# Altium footprint library SD_Micro_Card_Conn_Wurth_693071010811.PcbLib: 1 footprints
Each footprint in its own frame and in the unit in brackets; x right, y up, seen from the top. Pads: shape width x height; smd on the part's side, far side on the other; paste and mask are expansions set on the pad; w line width, h text height; cw(c..) or ccw(c..) is an arc to the next point about the centre after c.
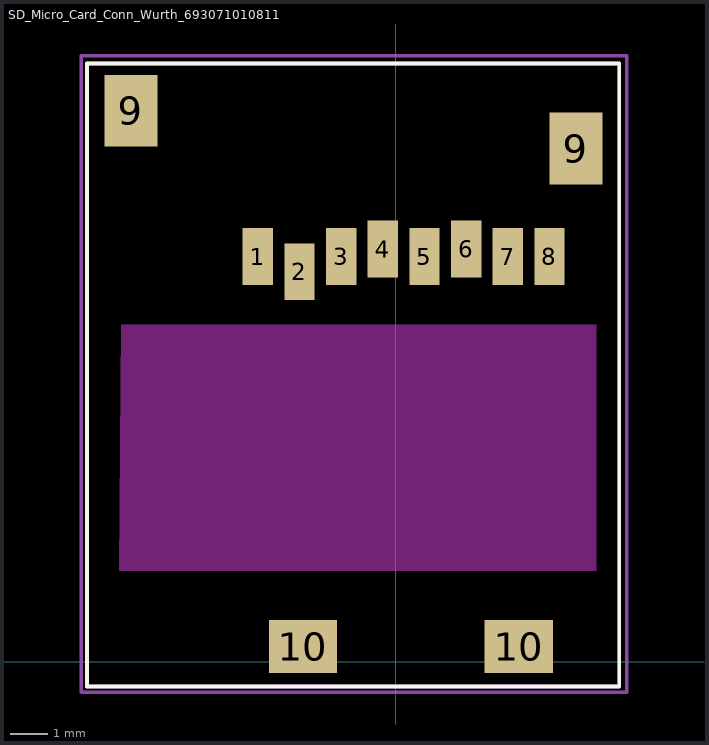
[diagram p0: the footprint, top view; thin cyan lines are the x and y axes]

## SD_Micro_Card_Conn_Wurth_693071010811 [mm]
height 1.38
pads (12):
  rect 0.8x1.5 smd: 1(-3.64,10.7) 2(-2.54,10.3) 3(-1.44,10.7) 4(-0.34,10.9) 5(0.76,10.7) 6(1.86,10.9) 7(2.96,10.7) 8(4.06,10.7)
  rect 1.4x1.9 smd: 9(-6.99,14.55) 9(4.76,13.55)
  rect 1.8x1.4 smd: 10(-2.45,0.4) 10(3.25,0.4)
Top Overlay:
  lines w0.1: -8.15,-0.65 -8.15,15.8 5.85,15.8 5.9,15.8 5.9,-0.65 -8.15,-0.65
Keep-Out Layer:
  region: 5.3,2.4 -7.3,2.4 -7.25,8.9 5.3,8.9
Mechanical 13:
  lines w0.1: -8.15,-0.65 -8.15,15.8 5.9,15.8 5.9,-0.65 -8.15,-0.65
Mechanical 15:
  lines w0.1: -8.3,-0.8 -8.3,16 6.1,16 6.1,-0.8 -8.3,-0.8
3D body: height 1.38, standoff 0, extent -8.15,-0.725 5.75,15.7